# Altium schematic symbol library pin1x5.SchLib: 1 symbol
Pins are listed as number, name and electrical type; pins without a type are passive.

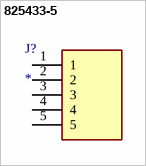
[diagram p0: symbol 825433-5]

## 825433-5
designator J?
Connector; Manufacturer_Name: TE Connectivity; Manufacturer_Part_Number: 825433-5; Datasheet Link: https://componentsearchengine.com//825433-5.pdf; Height: 9.7mm; Mouser2 Part Number: 571-825433-5; Mouser2 Price/Stock: https://www.mouser.com/Search/Refine.aspx?Keyword=571-825433-5
footprint HDRV5W63P0X254_1X5_1270X254X970P
pins: 1, 2, 3, 4, 5